# EAGLE library part 2X3 (library headers(2mm)(samtec))
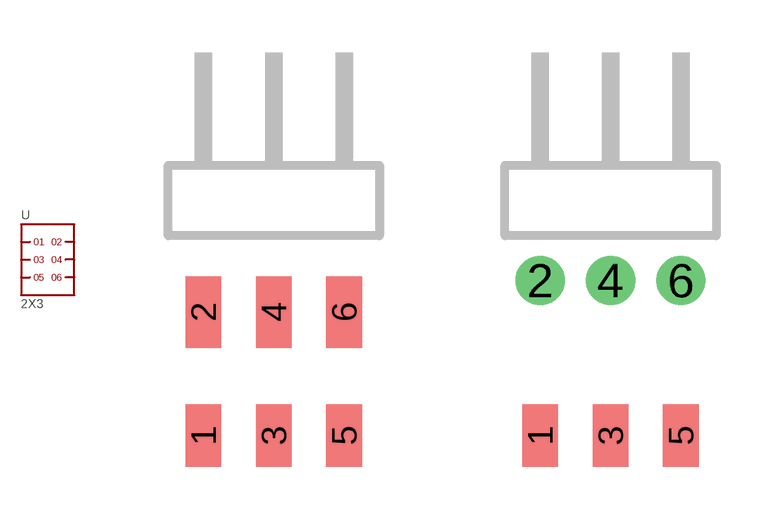
[diagram p3: symbol with the pads of 2X3_MMT.103.01.X.DH; footprints 2X3_MMT.103.01.X.DH, 2X3_MMT.103.01.X.MT]

Designator prefix -

## 2X3.MMT.DH  [2X3_MMT.103.01.X.DH]
1  1
2  2
3  3
4  4
5  5
6  6

## 2X3.MMT.MT  [2X3_MMT.103.01.X.MT]
Pads as for 2X3_MMT.103.01.X.DH

## Footprint 2X3_MMT.103.01.X.DH (pad centres in mm)
smd 1.016 x 1.778: 1 -2,-6.68; 3 0,-6.68; 5 2,-6.68
smd 1.016 x 2.032: 2 -2,-3.175; 4 0,-3.175; 6 2,-3.175

## Footprint 2X3_MMT.103.01.X.MT (pad centres in mm)
smd 1.016 x 1.778: 1 -2,-6.68; 3 0,-6.68; 5 2,-6.68
drill 0.889: 2 -2,-2.273; 4 0,-2.273; 6 2,-2.273